# EAGLE library part GELE_V05_IR2110 (library Board_v.03b)
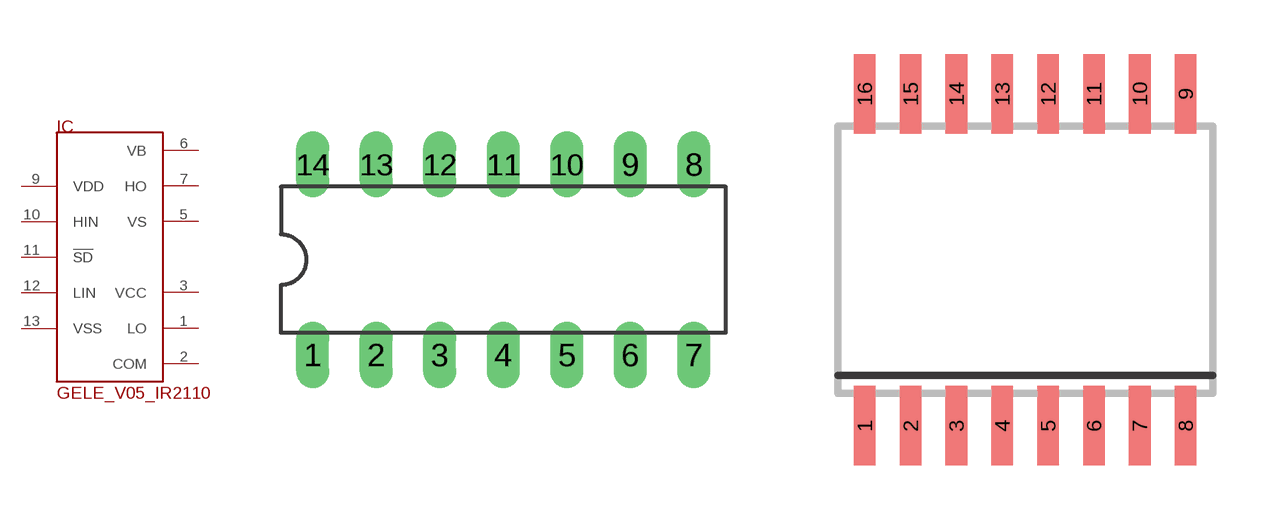
[diagram p2: symbol with the pads of GELE_V05_DIL14; footprints GELE_V05_DIL14, GELE_V05_SO-16DW]

Designator prefix IC

## GELE_V05_IR2110D  [GELE_V05_DIL14]
1  LO  out
2  COM  sup
3  VCC  sup
5  VS  sup
6  VB  sup
7  HO  out
9  VDD  sup
10  HIN  in
11  !SD  in
12  LIN  in
13  VSS  sup

## GELE_V05_IR2110S  [GELE_V05_SO-16DW]
1  LO  out
2  COM  sup
3  VCC  sup
6  VS  sup
7  VB  sup
8  HO  out
11  VDD  sup
12  HIN  in
13  !SD  in
14  LIN  in
15  VSS  sup

## Footprint GELE_V05_DIL14 (pad centres in mm)
Dual In Line Package
drill 0.813 long: 1 -7.62,-3.81; 2 -5.08,-3.81; 3 -2.54,-3.81; 4 0,-3.81; 5 2.54,-3.81; 6 5.08,-3.81; 7 7.62,-3.81; 8 7.62,3.81; 9 5.08,3.81; 10 2.54,3.81; 11 0,3.81; 12 -2.54,3.81; 13 -5.08,3.81; 14 -7.62,3.81

## Footprint GELE_V05_SO-16DW (pad centres in mm)
DW (RPDSO-G16) Source: http://focus.ti.com/lit/ds/symlink/iso1176.pdf
smd 0.6 x 2.2: 1 -4.445,-4.6; 2 -3.175,-4.6; 3 -1.905,-4.6; 4 -0.635,-4.6; 5 0.635,-4.6; 6 1.905,-4.6; 7 3.175,-4.6; 8 4.445,-4.6; 9 4.445,4.6; 10 3.175,4.6; 11 1.905,4.6; 12 0.635,4.6; 13 -0.635,4.6; 14 -1.905,4.6; 15 -3.175,4.6; 16 -4.445,4.6